# EAGLE library part R8C/M120AN (library okamoto)
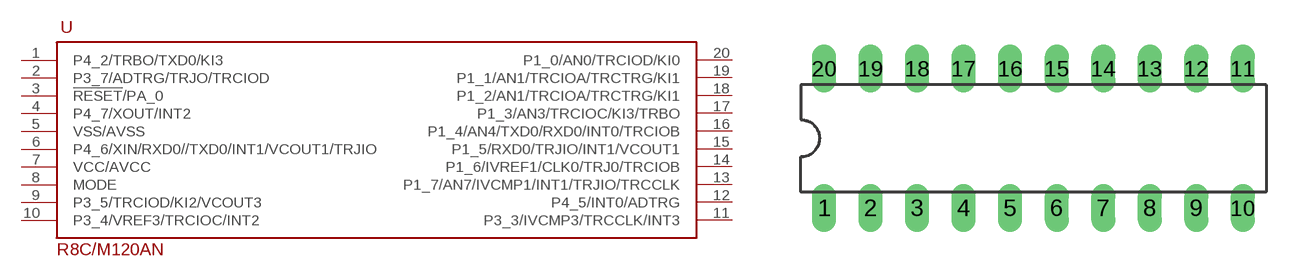
[diagram p24: symbol with the pads of DIL20; footprint DIL20]

Designator prefix U

## R8C/M120ANDIP  [DIL20]
1  P4_2/TRBO/TXD0/KI3
2  P3_7/ADTRG/TRJO/TRCIOD
3  !RESET!/PA_0
4  P4_7/XOUT/INT2
5  VSS/AVSS  pwr
6  P4_6/XIN/RXD0//TXD0/INT1/VCOUT1/TRJIO
7  VCC/AVCC  pwr
8  MODE  in
9  P3_5/TRCIOD/KI2/VCOUT3
10  P3_4/VREF3/TRCIOC/INT2
11  P3_3/IVCMP3/TRCCLK/INT3
12  P4_5/INT0/ADTRG
13  P1_7/AN7/IVCMP1/INT1/TRJIO/TRCCLK
14  P1_6/IVREF1/CLK0/TRJ0/TRCIOB
15  P1_5/RXD0/TRJIO/INT1/VCOUT1
16  P1_4/AN4/TXD0/RXD0/INT0/TRCIOB
17  P1_3/AN3/TRCIOC/KI3/TRBO
18  P1_2/AN1/TRCIOA/TRCTRG/KI1
19  P1_1/AN1/TRCIOA/TRCTRG/KI1
20  P1_0/AN0/TRCIOD/KI0

## Footprint DIL20 (pad centres in mm)
Dual In Line Package
drill 0.813 long: 1 -11.43,-3.81; 2 -8.89,-3.81; 3 -6.35,-3.81; 4 -3.81,-3.81; 5 -1.27,-3.81; 6 1.27,-3.81; 7 3.81,-3.81; 8 6.35,-3.81; 9 8.89,-3.81; 10 11.43,-3.81; 11 11.43,3.81; 12 8.89,3.81; 13 6.35,3.81; 14 3.81,3.81; 15 1.27,3.81; 16 -1.27,3.81; 17 -3.81,3.81; 18 -6.35,3.81; 19 -8.89,3.81; 20 -11.43,3.81